# Altium footprint library Transformers.PcbLib: 2 footprints
Each footprint in its own frame and in the unit in brackets; x right, y up, seen from the top. Pads: shape width x height; smd on the part's side, far side on the other; paste and mask are expansions set on the pad; w line width, h text height; cw(c..) or ccw(c..) is an arc to the next point about the centre after c.
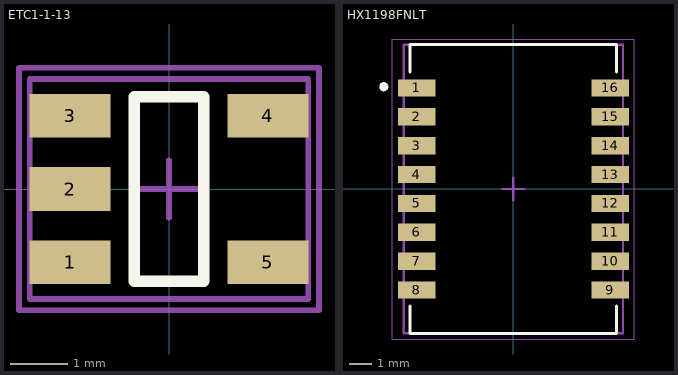
[diagram p0: the footprints below, top view; thin cyan lines are the x and y axes]

## ETC1-1-13 [mm]
pads (5):
  rect 1.4x0.76 smd: 1(-1.715,-1.27) 2(-1.715,0) 3(-1.715,1.27) 4(1.715,1.27) 5(1.715,-1.27)
Top Overlay:
  lines w0.2: -0.6,-1.6 0.6,-1.6 0.6,1.6 -0.6,1.6 -0.6,-1.6
Mechanical 1:
  lines w0.1: -2.413,-1.905 2.413,-1.905 2.413,1.905 -2.413,1.905 -2.413,-1.905
Mechanical 15:
  lines w0.1: -0.5,0 0.5,0 ; 0,-0.5 0,0.5 ; -2.6,-2.1 2.6,-2.1 2.6,2.1 -2.6,2.1 -2.6,-2.1
3D body "ETC1-1-13.step": height 2.6, standoff 0, extent -2.413,-1.905 2.413,1.905

## HX1198FNLT [mm]
pads (16):
  rect 1.65x0.76 smd: 1(-4.255,4.445) 2(-4.255,3.175) 3(-4.255,1.905) 4(-4.255,0.635) 5(-4.255,-0.635) 6(-4.255,-1.905) 7(-4.255,-3.175) 8(-4.255,-4.445) 9(4.255,-4.445) 10(4.255,-3.175) 11(4.255,-1.905) 12(4.255,-0.635) 13(4.255,0.635) 14(4.255,1.905) 15(4.255,3.175) 16(4.255,4.445)
Top Overlay:
  circle w0.2: c-5.7,4.5 r0.1
  lines w0.127: -4.545,-5.15 -4.545,-6.35 4.545,-6.35 4.545,-5.15 ; -4.545,5.15 -4.545,6.35 4.545,6.35 4.545,5.15
Mechanical 1:
  lines w0.1: -4.826,-6.35 4.826,-6.35 4.826,6.35 -4.826,6.35 -4.826,-6.35
Mechanical 15:
  lines w0.05: -5.33,-6.6 -5.33,6.6 5.33,6.6 5.33,-6.6 -5.33,-6.6
  lines w0.1: -0.5,0 0.5,0 ; 0,-0.5 0,0.5
3D body "HX1198FNLT--3DModel-STEP-56544.STEP": height 5.97, standoff -0.03, extent -4.826,-6.35 4.826,6.35